# EAGLE library part MSP430FR5994IZVW (library parts_library)
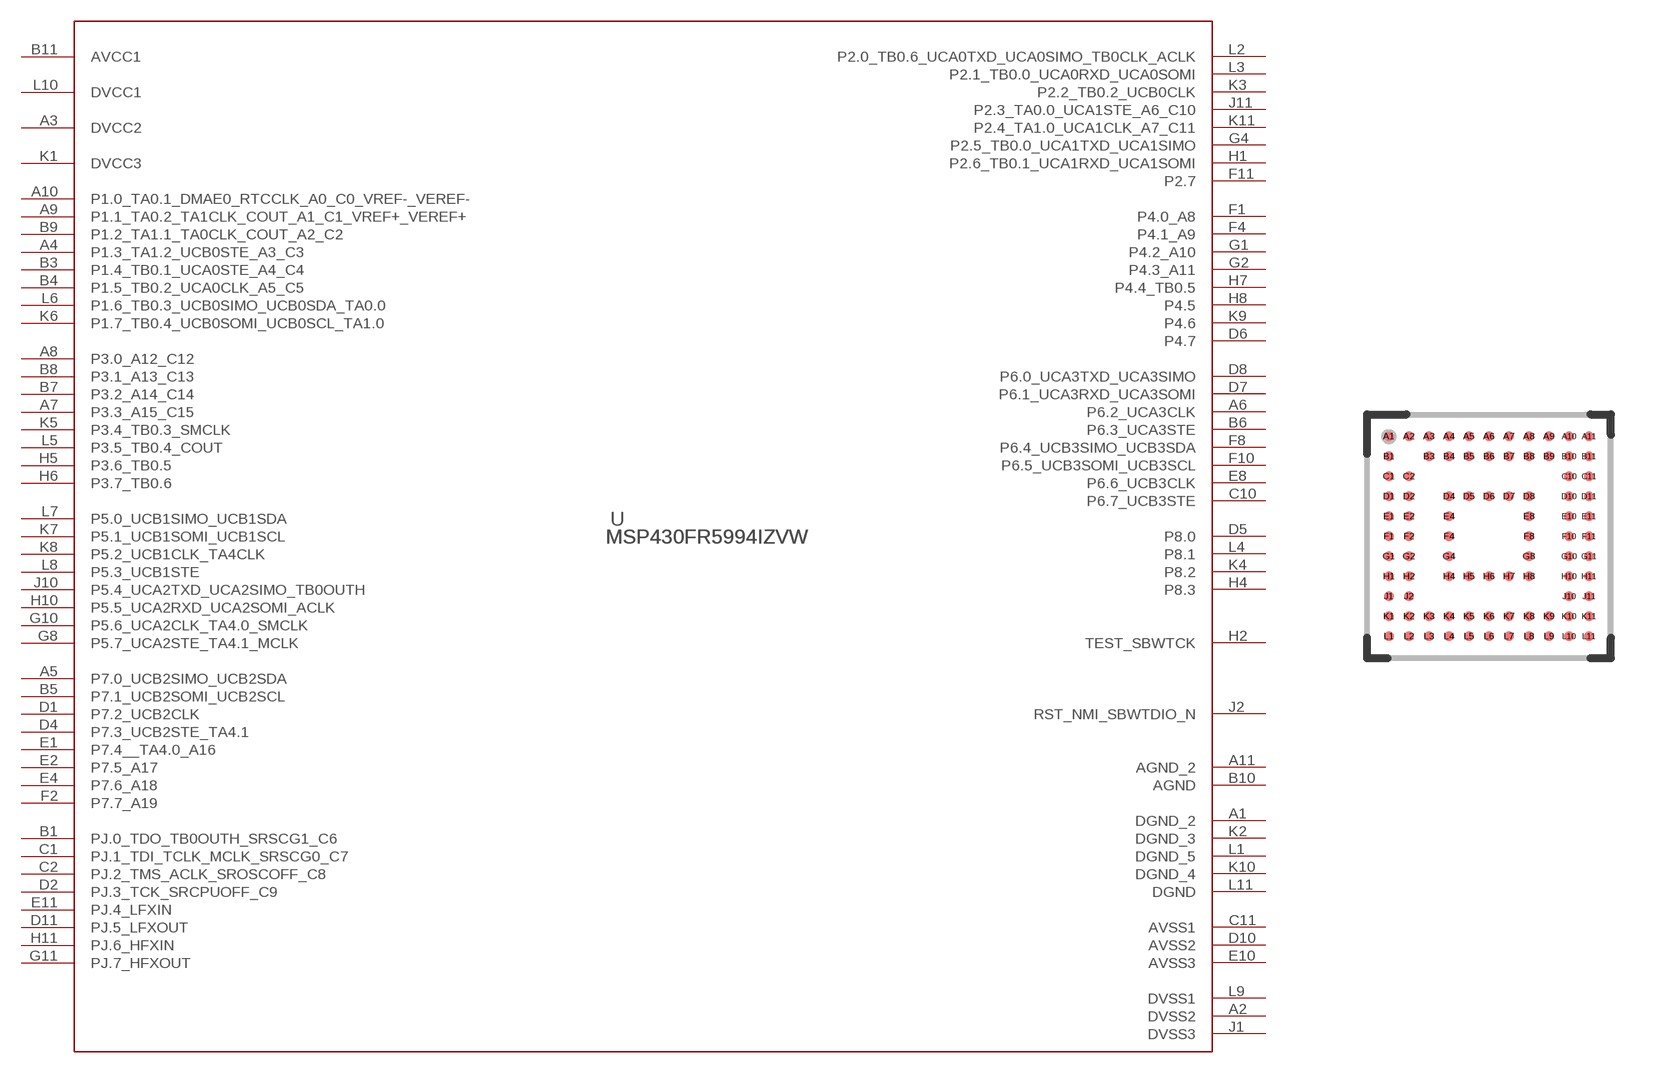
[diagram p2: symbol with the pads of ZVW0087A; footprint ZVW0087A]

Designator prefix U

## MSP430FR5994IZVW (COPYRIGHT: Copyright (C) 2025 Ultra Librarian. All rights reserved.; MANUFACTURER_PART_NUMBER: MSP430FR5994IZVW; MFR_NAME: Texas Instruments; REFDES: RefDes; TYPE: TYPE)  [ZVW0087A]
A1  DGND_2  pwr
A2  DVSS2  pwr
A3  DVCC2  pwr
A4  P1.3_TA1.2_UCB0STE_A3_C3
A5  P7.0_UCB2SIMO_UCB2SDA
A6  P6.2_UCA3CLK
A7  P3.3_A15_C15
A8  P3.0_A12_C12
A9  P1.1_TA0.2_TA1CLK_COUT_A1_C1_VREF+_VEREF+
A10  P1.0_TA0.1_DMAE0_RTCCLK_A0_C0_VREF-_VEREF-
A11  AGND_2  pwr
B1  PJ.0_TDO_TB0OUTH_SRSCG1_C6
B3  P1.4_TB0.1_UCA0STE_A4_C4
B4  P1.5_TB0.2_UCA0CLK_A5_C5
B5  P7.1_UCB2SOMI_UCB2SCL
B6  P6.3_UCA3STE
B7  P3.2_A14_C14
B8  P3.1_A13_C13
B9  P1.2_TA1.1_TA0CLK_COUT_A2_C2
B10  AGND  pwr
B11  AVCC1  pwr
C1  PJ.1_TDI_TCLK_MCLK_SRSCG0_C7
C2  PJ.2_TMS_ACLK_SROSCOFF_C8
C10  P6.7_UCB3STE
C11  AVSS1  pwr
D1  P7.2_UCB2CLK
D2  PJ.3_TCK_SRCPUOFF_C9
D4  P7.3_UCB2STE_TA4.1
D5  P8.0
D6  P4.7
D7  P6.1_UCA3RXD_UCA3SOMI
D8  P6.0_UCA3TXD_UCA3SIMO
D10  AVSS2  pwr
D11  PJ.5_LFXOUT
E1  P7.4__TA4.0_A16
E2  P7.5_A17
E4  P7.6_A18
E8  P6.6_UCB3CLK
E10  AVSS3  pwr
E11  PJ.4_LFXIN
F1  P4.0_A8
F2  P7.7_A19
F4  P4.1_A9
F8  P6.4_UCB3SIMO_UCB3SDA
F10  P6.5_UCB3SOMI_UCB3SCL
F11  P2.7
G1  P4.2_A10
G2  P4.3_A11
G4  P2.5_TB0.0_UCA1TXD_UCA1SIMO
G8  P5.7_UCA2STE_TA4.1_MCLK
G10  P5.6_UCA2CLK_TA4.0_SMCLK
G11  PJ.7_HFXOUT
H1  P2.6_TB0.1_UCA1RXD_UCA1SOMI
H2  TEST_SBWTCK  in
H4  P8.3
H5  P3.6_TB0.5
H6  P3.7_TB0.6
H7  P4.4_TB0.5
H8  P4.5
H10  P5.5_UCA2RXD_UCA2SOMI_ACLK
H11  PJ.6_HFXIN
J1  DVSS3  pwr
J2  RST_NMI_SBWTDIO_N
J10  P5.4_UCA2TXD_UCA2SIMO_TB0OUTH
J11  P2.3_TA0.0_UCA1STE_A6_C10
K1  DVCC3  pwr
K2  DGND_3  pwr
K3  P2.2_TB0.2_UCB0CLK
K4  P8.2
K5  P3.4_TB0.3_SMCLK
K6  P1.7_TB0.4_UCB0SOMI_UCB0SCL_TA1.0
K7  P5.1_UCB1SOMI_UCB1SCL
K8  P5.2_UCB1CLK_TA4CLK
K9  P4.6
K10  DGND_4  pwr
K11  P2.4_TA1.0_UCA1CLK_A7_C11
L1  DGND_5  pwr
L2  P2.0_TB0.6_UCA0TXD_UCA0SIMO_TB0CLK_ACLK
L3  P2.1_TB0.0_UCA0RXD_UCA0SOMI
L4  P8.1
L5  P3.5_TB0.4_COUT
L6  P1.6_TB0.3_UCB0SIMO_UCB0SDA_TA0.0
L7  P5.0_UCB1SIMO_UCB1SDA
L8  P5.3_UCB1STE
L9  DVSS1  pwr
L10  DVCC1  pwr
L11  DGND  pwr

## Footprint ZVW0087A (pad centres in mm)
smd 0.25 x 0.25: A1 -2.5,2.5; A2 -2,2.5; A3 -1.5,2.5; A4 -1,2.5; A5 -0.5,2.5; A6 0,2.5; A7 0.5,2.5; A8 1,2.5; A9 1.5,2.5; A10 2,2.5; A11 2.5,2.5; B1 -2.5,2; B3 -1.5,2; B4 -1,2; B5 -0.5,2; B6 0,2; B7 0.5,2; B8 1,2; B9 1.5,2; B10 2,2; B11 2.5,2; C1 -2.5,1.5; C2 -2,1.5; C10 2,1.5; C11 2.5,1.5; D1 -2.5,1; D2 -2,1; D4 -1,1; D5 -0.5,1; D6 0,1; D7 0.5,1; D8 1,1; D10 2,1; D11 2.5,1; E1 -2.5,0.5; E2 -2,0.5; E4 -1,0.5; E8 1,0.5; E10 2,0.5; E11 2.5,0.5; F1 -2.5,0; F2 -2,0; F4 -1,0; F8 1,0; F10 2,0; F11 2.5,0; G1 -2.5,-0.5; G2 -2,-0.5; G4 -1,-0.5; G8 1,-0.5; G10 2,-0.5; G11 2.5,-0.5; H1 -2.5,-1; H2 -2,-1; H4 -1,-1; H5 -0.5,-1; H6 0,-1; H7 0.5,-1; H8 1,-1; H10 2,-1; H11 2.5,-1; J1 -2.5,-1.5; J2 -2,-1.5; J10 2,-1.5; J11 2.5,-1.5; K1 -2.5,-2; K2 -2,-2; K3 -1.5,-2; K4 -1,-2; K5 -0.5,-2; K6 0,-2; K7 0.5,-2; K8 1,-2; K9 1.5,-2; K10 2,-2; K11 2.5,-2; L1 -2.5,-2.5; L2 -2,-2.5; L3 -1.5,-2.5; L4 -1,-2.5; L5 -0.5,-2.5; L6 0,-2.5; L7 0.5,-2.5; L8 1,-2.5; L9 1.5,-2.5; L10 2,-2.5; L11 2.5,-2.5